# EAGLE library part OPA_4134 (library bao)
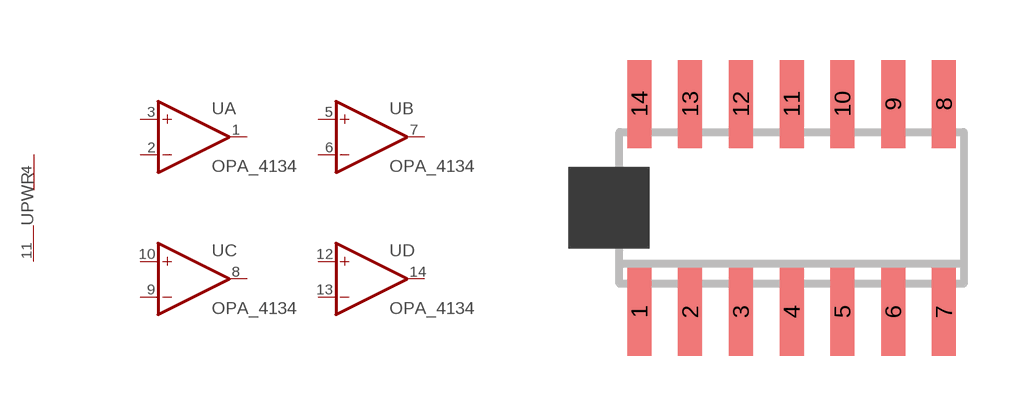
[diagram p22: symbol with the pads of SOIC14; footprint SOIC14]

Designator prefix U; gates A=OPAMP C=OPAMP PWR=PWR+- B=OPAMP D=OPAMP

## OPA_4134SO14 (NHPREF: 282; POPULATE: TRUE; VALUE: OPA_4134)  [SOIC14]
1  A:OUT  out
2  A:-IN  in
3  A:+IN  in
4  PWR:V+  pwr
5  B:+IN  in
6  B:-IN  in
7  B:OUT  out
8  C:OUT  out
9  C:-IN  in
10  C:+IN  in
11  PWR:V-  pwr
12  D:+IN  in
13  D:-IN  in
14  D:OUT  out

## Footprint SOIC14 (pad centres in mm)
smd 0.6 x 2.2: 1 -3.81,-2.6; 2 -2.54,-2.6; 3 -1.27,-2.6; 4 0,-2.6; 5 1.27,-2.6; 6 2.54,-2.6; 7 3.81,-2.6; 8 3.81,2.6; 9 2.54,2.6; 10 1.27,2.6; 11 0,2.6; 12 -1.27,2.6; 13 -2.54,2.6; 14 -3.81,2.6